# Altium footprint library GS-101_v3.3.PcbLib: 40 footprints (part 3 of 3)
Each footprint in its own frame and in the unit in brackets; x right, y up, seen from the top. Pads: shape width x height; smd on the part's side, far side on the other; paste and mask are expansions set on the pad; w line width, h text height; cw(c..) or ccw(c..) is an arc to the next point about the centre after c.
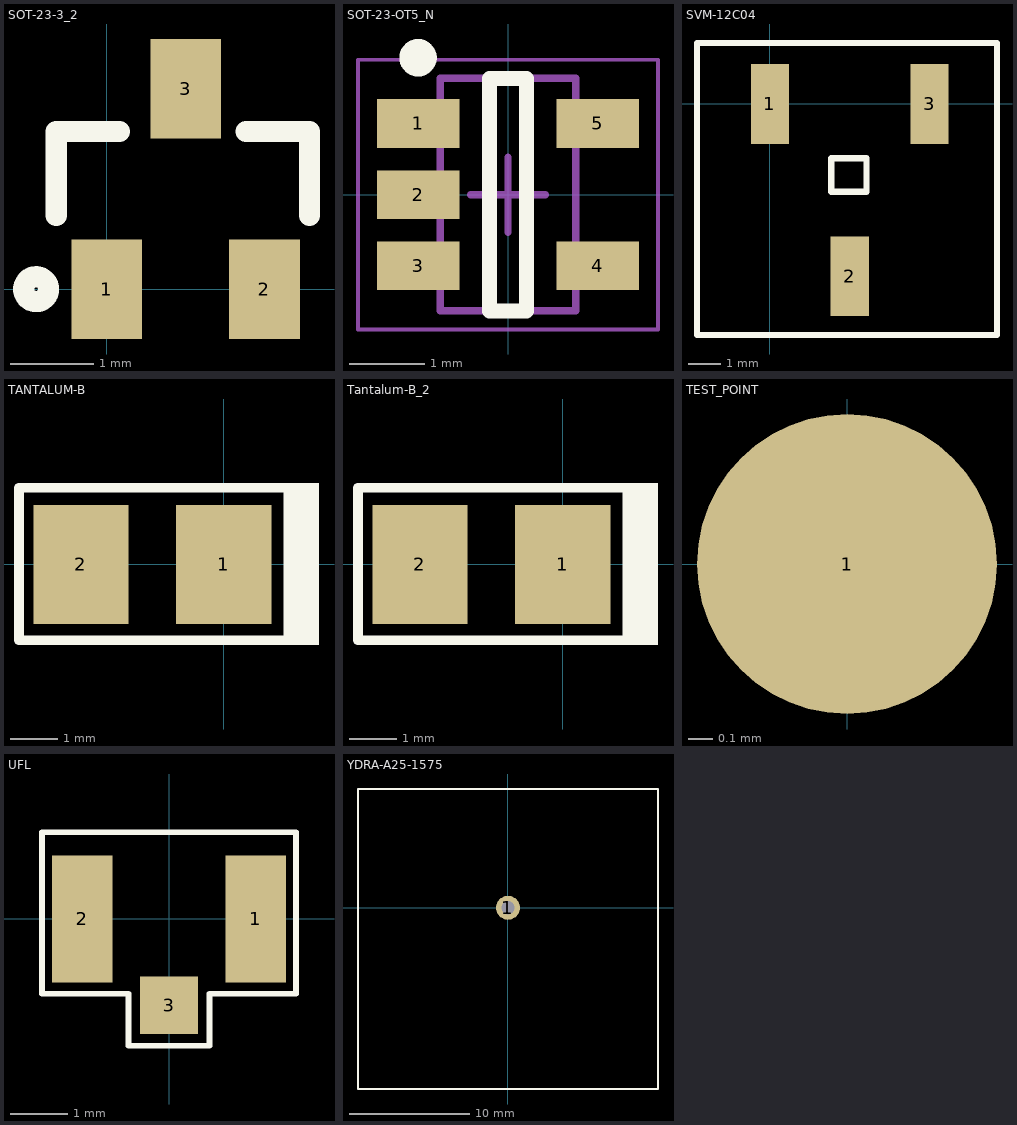
[diagram p2: the footprints below, top view; thin cyan lines are the x and y axes]

## SOT-23-3_2 [mm]
pads (3):
  rect 0.85x1.2 smd: 1(0,0) 2(1.9,0) 3(0.95,2.413)
Top Overlay:
  circle w0.254: c-0.85,0 r0.15
  lines w0.254: -0.608,0.889 -0.608,1.9 0.154,1.9 ; 1.678,1.9 2.44,1.9 2.44,0.889
3D body "User Library-SOT23-2.STEP": height 1.08, standoff 0, extent -0.55,-0.2 2.45,2.44

## SOT-23-OT5_N [mm] "SOT23, 5-Leads, Body 2.9x1.6mm, Pitch 0.95mm, Lead Span 2.7mm, IPC Medium Density"
height 1.45
pads (5):
  rect 1.1x0.65 smd: 1(-1.2,0.95) 2(-1.2,0) 3(-1.2,-0.95) 4(1.2,-0.95) 5(1.2,0.95)
Top Overlay:
  circle w0.25: c-1.2,1.825 r0.125
  lines w0.2: -0.25,-1.55 -0.25,1.55 0.25,1.55 0.25,-1.55 -0.25,-1.55
Mechanical 13:
  lines w0.1: -0.9,-1.55 0.9,-1.55 0.9,1.55 -0.9,1.55 -0.9,-1.55
Mechanical 15:
  lines w0.05: -2,-1.8 2,-1.8 2,1.8 -2,1.8 -2,-1.8
  lines w0.1: -0.5,0 0.5,0 ; 0,-0.5 0,0.5
3D body: height 1.45, standoff 0, extent -0.9,-1.55 0.9,1.55

## SVM-12C04 [mm] "Slide Switch SPDT Surface Mount, Vertical Push"
height 1.4
pads (3):
  rect 1.2x2.5 smd: 1(0,0) 2(2.5,-5.4) 3(5,0)
Top Overlay:
  lines w0.2: -2.286,-7.239 7.112,-7.239 7.112,1.905 -2.286,1.905 -2.286,-7.239 ; 1.922,-2.749 1.922,-1.699 3.022,-1.699 3.022,-2.749 1.922,-2.749

## TANTALUM-B [mm] "1210 (3528 Metric) Tantalum Capacitor"
pads (2):
  rect 2x2.5 smd: 1(0,0) 2(-3,0)
Top Overlay:
  rectangle: 1.255,-1.69 2,1.71
  lines w0.2: 1.355,1.61 -3.145,1.61 -4.3,1.61 -4.3,-1.59 -2.545,-1.59 1.9,-1.59
3D body "User Library-Tantalum Capacitor Case B.STEP": height 2.09, standoff -0.01, extent -3.39,-1.41 0.3,1.41

## Tantalum-B_2 [mm]
pads (2):
  rect 2x2.5 smd: 1(0,0) 2(-3,0)
Top Overlay:
  rectangle: 1.255,-1.69 2,1.71
  lines w0.2: 1.355,1.61 -3.145,1.61 -4.3,1.61 -4.3,-1.59 -2.545,-1.59 1.9,-1.59
3D body "User Library-Tantalum Capacitor Case B.STEP": height 2.09, standoff -0.01, extent -3.39,-1.41 0.3,1.41

## TEST_POINT [mm]
pads (1):
  round 1.25 smd: 1(0,0)

## UFL [mm]
pads (3):
  rect 1.05x2.2 smd paste+0.1: 1(1.5,0) 2(-1.5,0)
  rect 1x1 smd paste+0.1: 3(0,-1.5)
Top Overlay:
  lines w0.1: -2.2,-1.3 -0.7,-1.3 -0.7,-2.2 0.7,-2.2 0.7,-1.3 2.2,-1.3 2.2,1.5 -2.2,1.5 -2.2,-1.3
3D body "SW3dPS-UFL-R-SMD.STEP": height 1.25, standoff 0, extent -1.7,-1.6 1.7,1.5

## YDRA-A25-1575 [mm] "25x25mm GPS ceramic patch antenna"
height 6.4
pads (1):
  round 2 hole 1.1: 1(0,0)
Top Overlay:
  lines w0.2: -12.5,-15.1 12.5,-15.1 12.5,9.9 -12.5,9.9 -12.5,-15.1
3D body "User Library-YDRA-A25-1575.step": height 5, standoff -3, extent -12.5,-15.1 12.5,9.9